# EAGLE library part MCP2221-I/SL (library MCP2221)
MCP2221 USB 2.0 to I2C/UART Protocol Converter with GPIO
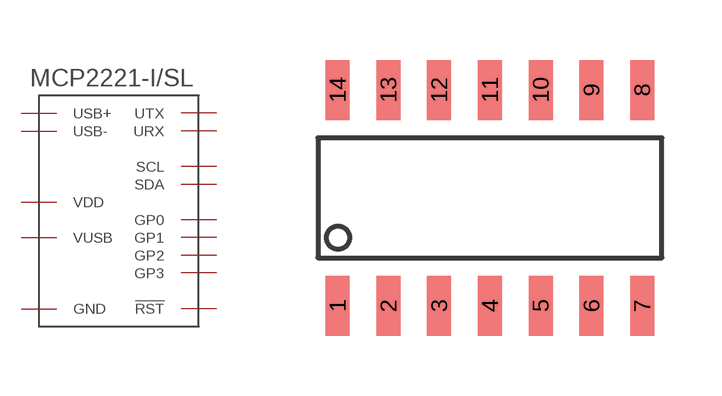
[diagram p0: symbol with the pads of SOIC14; footprint SOIC14]

Designator prefix -

## MCP2221-I/SL  [SOIC14]
1  VDD
2  GP0
3  GP1
4  !RST
5  URX
6  UTX
7  GP2
8  GP3
9  SDA
10  SCL
11  VUSB
12  USB-
13  USB+
14  GND

## Footprint SOIC14 (pad centres in mm)
smd 0.6 x 1.5: 1 -3.81,0; 2 -2.54,0; 3 -1.27,0; 4 0,0; 5 1.27,0; 6 2.54,0; 7 3.81,0; 8 3.81,5.4; 9 2.54,5.4; 10 1.27,5.4; 11 0,5.4; 12 -1.27,5.4; 13 -2.54,5.4; 14 -3.81,5.4